# Altium integrated library NC7SZ157P6X.IntLib: 1 symbol
Pins are listed as number, name and electrical type; pins without a type are passive.

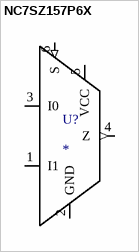
[diagram p0: symbol NC7SZ157P6X]

## NC7SZ157P6X
designator U?
footprint SC-70-6
pins: 1 I1, 2 GND (power), 3 I0, 4 Z (out), 5 VCC (power), 6 S (in)